# EAGLE library part VI-26R-IY-F4 (library Maxi_Footprints)
Check availability <https://pricing.snapeda.com/parts/VI-26R-IY-F4/Vicor/view-part?ref=eda>
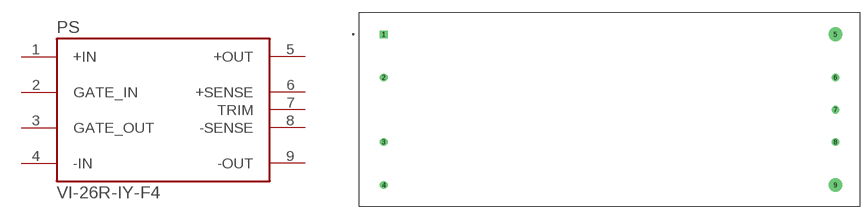
[diagram p0: symbol with the pads of CONV_VI-26R-IY-F4; footprint CONV_VI-26R-IY-F4]

Designator prefix PS

## VI-26R-IY-F4 (Availability: In Stock; Check_prices: https://www.snapeda.com/parts/VI-26R-IY-F4/Vicor/view-part/?ref=eda; Description: Isolated Module DC DC Converter 1 Output 7.5V 6.67A 200V - 400V Input; MF: Vicor; MP: VI-26R-IY-F4; Package: Full Brick Vicor; Price: None; SnapEDA_Link: https://www.snapeda.com/parts/VI-26R-IY-F4/Vicor/view-part/?ref=snap)  [CONV_VI-26R-IY-F4]
1  +IN  in
2  GATE_IN  in
3  GATE_OUT  out
4  -IN  in
5  +OUT  out
6  +SENSE  in
7  TRIM  in
8  -SENSE  in
9  -OUT  out

## Footprint CONV_VI-26R-IY-F4 (pad centres in mm)
drill 1.216 square: 1 -53.34,17.78
drill 1.216: 2 -53.34,7.62; 3 -53.34,-7.62; 4 -53.34,-17.78; 6 53.34,7.62; 7 53.34,0; 8 53.34,-7.62
drill 2.232: 5 53.34,17.78; 9 53.34,-17.78